# EAGLE library part STROZVODY (library KMZ)
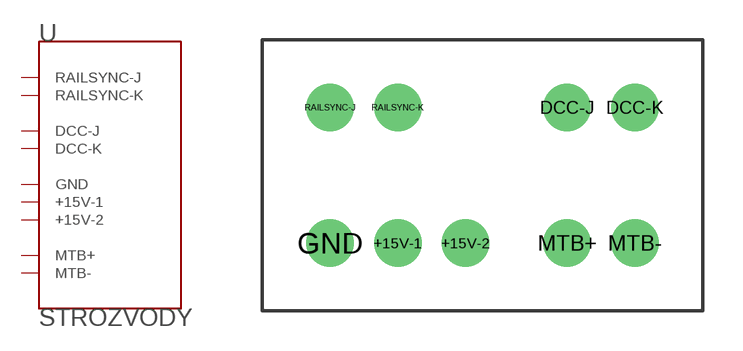
[diagram p3: symbol with the pads of STROZVODY; footprint STROZVODY]

Designator prefix -

## STROZVODY  [STROZVODY]
+15V-1  +15V-1
+15V-2  +15V-2
DCC-J  DCC-J
DCC-K  DCC-K
GND  GND
MTB+  MTB+
MTB-  MTB-
RAILSYNC-J  RAILSYNC-J
RAILSYNC-K  RAILSYNC-K

## Footprint STROZVODY (pad centres in mm)
drill 1.1 pad 1.778 round: +15V-1 -2.54,-2.54; +15V-2 0,-2.54; DCC-J 3.81,2.54; DCC-K 6.35,2.54; GND -5.08,-2.54; MTB+ 3.81,-2.54; MTB- 6.35,-2.54; RAILSYNC-J -5.08,2.54; RAILSYNC-K -2.54,2.54